# EAGLE library part 16X2_LCD_DISPLAY (library AB_16X2_LCD_DISPLAY)
16 x 2 LCD Display Created by Aadesh Borate Features : Operating voltage : 5 V Input Voltage : 5V Current consumption is 1mA without backlight Can work on both 8-bit and 4-bit mode Alphanumeric LCD display module, meaning can display alphabets and numbers Consists of two rows and each row can print 16 characters. Buy this module at Robu.in <https://robu.in/product/basic-16x2-character-lcd-white-on-blue-on-blue-5v/> <
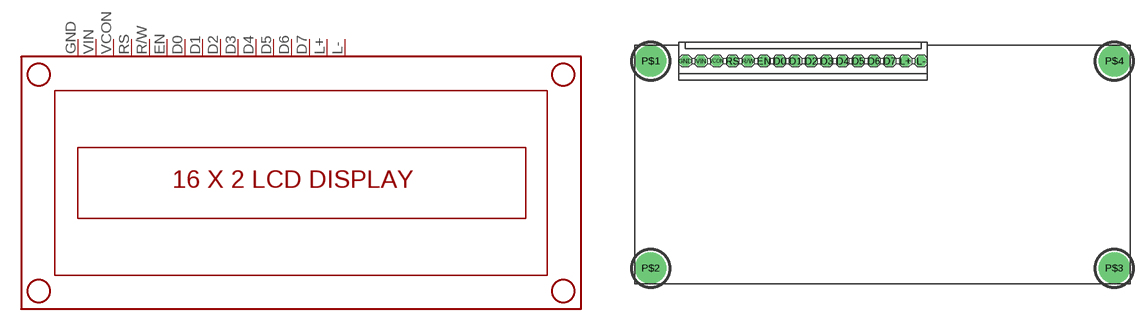
[diagram p0: symbol with the pads of 16X2_LCD_DISPLAY; footprint 16X2_LCD_DISPLAY]

Designator prefix -

## 16X2_LCD_DISPLAY  [16X2_LCD_DISPLAY]
D0  D0
D1  D1
D2  D2
D3  D3
D4  D4
D5  D5
D6  D6
D7  D7
EN  EN
GND  GND
L+  L+
L-  L-
R/W  R/W
RS  RS
VCON  VCON
VIN  VIN

## Footprint 16X2_LCD_DISPLAY (pad centres in mm)
16 x 2 LCD Display Created by Aadesh Borate Features : Operating voltage : 5 V Input Voltage : 5V Current consumption is 1mA without backlight Can work on both 8-bit and 4-bit mode Alphanumeric LCD display module, meaning can display alphabets and numbers Consists of two rows and each row can print 16 characters. Buy this module at Robu.in <https://robu.in/product/basic-16x2-character-lcd-white-on-blue-on-blue-5v/> <
drill 1.143 octagon: D0 0.508,7.874; D1 3.048,7.874; D2 5.588,7.874; D3 8.128,7.874; D4 10.668,7.874; D5 13.208,7.874; D6 15.748,7.874; D7 18.288,7.874; EN -2.032,7.874; GND -14.732,7.874; L+ 20.828,7.874; L- 23.368,7.874; R/W -4.572,7.874; RS -7.112,7.874; VCON -9.652,7.874; VIN -12.192,7.874
drill 3.302 pad 5.08: P$1 -20.32,7.874; P$2 -20.32,-25.654; P$3 54.61,-25.654; P$4 54.61,7.874